# Altium footprint library FC-135 32.7680KA-A3.PcbLib: 1 footprints
Each footprint in its own frame and in the unit in brackets; x right, y up, seen from the top. Pads: shape width x height; smd on the part's side, far side on the other; paste and mask are expansions set on the pad; w line width, h text height; cw(c..) or ccw(c..) is an arc to the next point about the centre after c.
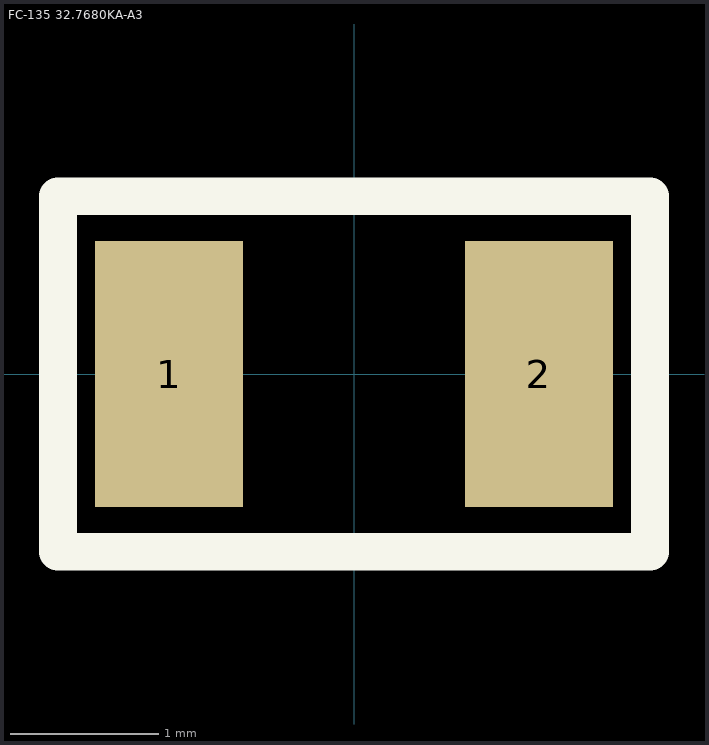
[diagram p0: the footprint, top view; thin cyan lines are the x and y axes]

## FC-135 32.7680KA-A3 [mm]
pads (2):
  rect 1x1.8 smd: 1(-1.25,0) 2(1.25,0)
Top Overlay:
  lines w0.254: -2,-1.2 -2,1.2 2,1.2 2,-1.2 -2,-1.2
3D body "User Library-Crystal FC-135.STEP": height 0.8, standoff 0, extent -1.6,-0.75 1.6,0.75